# EAGLE library part MAX663CSA (library maxim)
Positive VOLTAGE REGULATOR
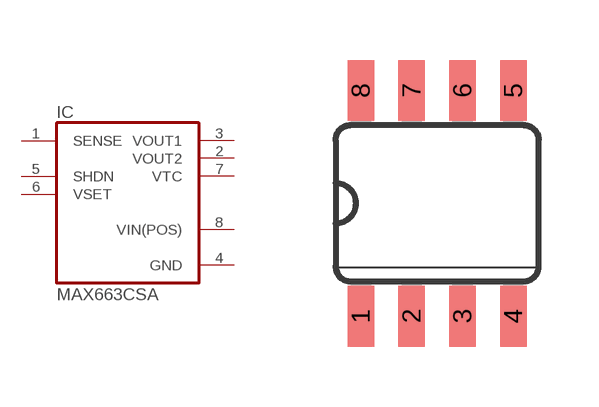
[diagram p159: symbol with the pads of SO08; footprint SO08]

Designator prefix IC

## MAX663CSA (MF: MAXIM; MPN: MAX663CSA; OC_FARNELL: 1188015; OC_NEWARK: 34C3969)  [SO08]
1  SENSE  in
2  VOUT2  out
3  VOUT1  out
4  GND  pwr
5  SHDN  in
6  VSET  in
7  VTC  out
8  VIN(POS)  pwr

## Footprint SO08 (pad centres in mm)
Small Outline Package SOIC 150 mil
smd 0.66 x 1.524: 1 -1.905,-2.819; 2 -0.635,-2.819; 3 0.635,-2.819; 4 1.905,-2.819; 5 1.905,2.819; 6 0.635,2.819; 7 -0.635,2.819; 8 -1.905,2.819